# Altium integrated library Linear Technology Power Management Battery Management.IntLib: 626 symbols (part 16 of 56)
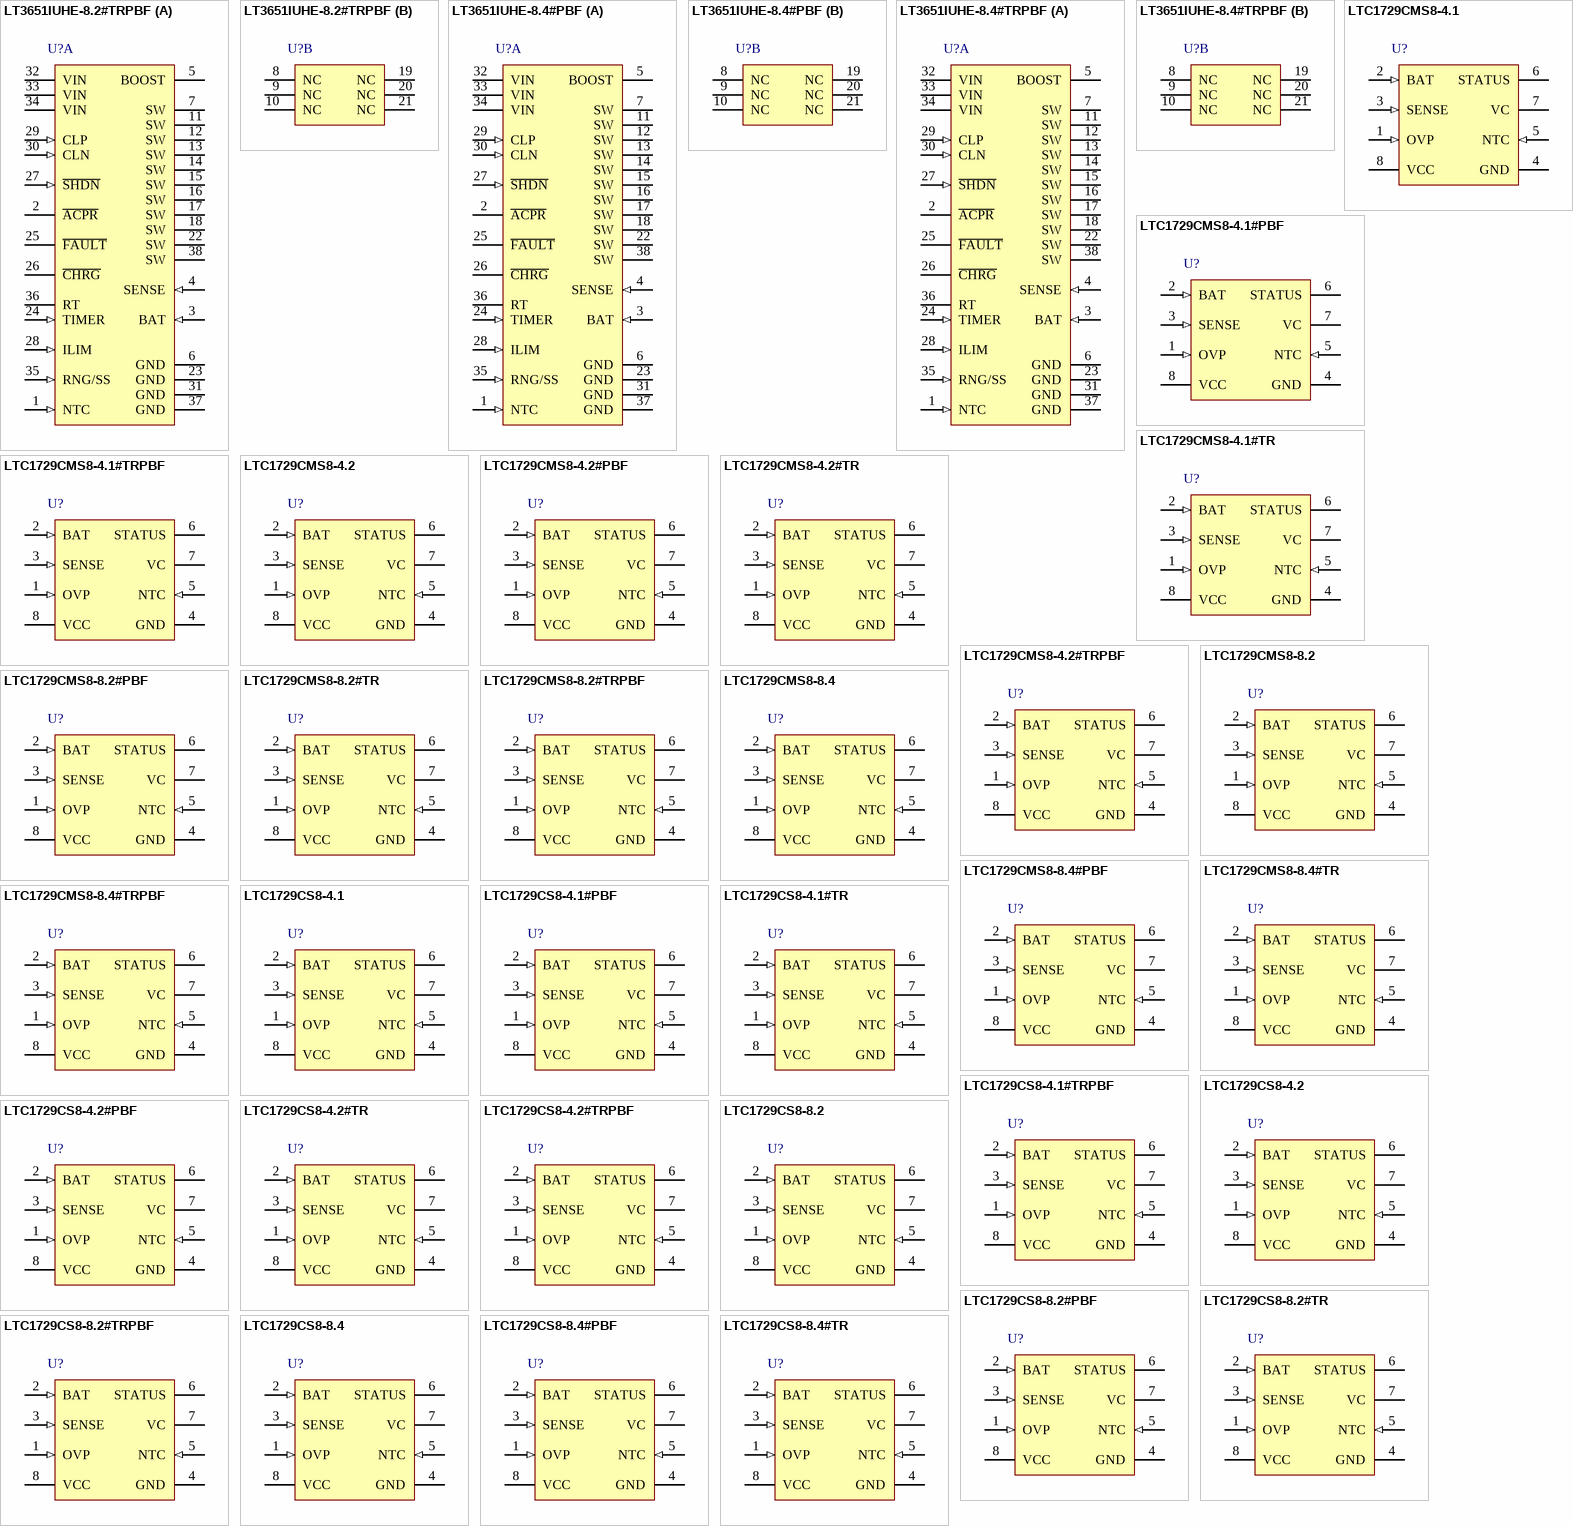
[diagram p37: symbols LT3651IUHE-8.2#TRPBF to LTC1729CS8-8.4#TR]

## LT3651IUHE-8.4#PBF
designator U?
Monolithic 4 A High Voltage 2-Cell Li-Ion Battery Charger, 9 to 32 V Vin, 36-pin QFN (UHE-36), -40 to 125 degC, Pb-Free; Manufacturer: Linear Technology; PartNumber: LT3651IUHE-8.4#PBF; Battery Chemistry: Li-Ion, Li-Polymer; Charge Termination: C/10, Timer; Float Voltage: 8.4 V; Max Charge Current(A): 4; Number of Cells: 2; Type of Charger: Switching; Vin Max(V): 32; Vin Min(V): 9; PackageVersion: Rev. A, 02/2012; PackageReference: UHE-36; PackageDescription: 36-Pin Plastic QFN, Body 5 x 6 mm, Pitch 0.5 mm; Supplier 1: Digi-Key; Supplier Part Number 1: LT3651IUHE-8.4#PBF-ND; Supplier 2: Newark; Supplier Part Number 2: 56W0969; RoHS: TRUE; Mounting Technology: Surface Mount; ComponentLink1Description: Manufacturer URL; ComponentLink1URL: http://www.linear.com/; ComponentLink2Description: Datasheet; ComponentLink2URL: http://cds.linear.com/docs/en/datasheet/36518284f.pdf; ComponentLink3Description: Package Specification; ComponentLink3URL: http://cds.linear.com/docs/en/packaging/(UHE36MA)%20QFN%2005-08-1753%20Rev%20A.pdf
footprint LT-UHE-36_N (QFN, 36-Leads, Body 6.1x5.1mm, Pitch 0.5mm, IPC Medium Density)
footprint LT-UHE-36_L (QFN, 36-Leads, Body 6.1x5.1mm, Pitch 0.5mm, IPC High Density)
footprint LT-UHE-36_M (QFN, 36-Leads, Body 6.1x5.1mm, Pitch 0.5mm, IPC Low Density)
part A pins: 1 NTC (in) "Battery Temperature Monitor Pin.  This pin is used to monitor battery temperature. Typically a 10k ohm  NTC (negative temperature coefficient) thermistor (B = 3380) is embedded with the battery and connected from the NTC pin (See Datasheet)", 2 ~{ACPR} (oc) "Open-Collector AC Present Status Pin.  This pin sinks current to indicate that VIN is valid and the charger is on. Typically a resistor pull-up is used on this pin. This pin can be pulled up to voltages as high as VIN when (See Datasheet)", 3 BAT (in) "Battery Voltage Monitor Pin. This pin monitors battery voltage. A Kelvin connection is made to the battery from this pin and a decoupling capacitor (CBAT)  is placed from this pin to ground. The charge function operates to (See Datasheet)", 4 SENSE (in) "Charge Current Sense Pin. The charge current is monitored with a sense resistor (RSENSE) connected between this pin and the BAT pin. The inductor current flows through RSENSE to the battery. The voltage across this resistor (See Datasheet)", 5 BOOST "Bootstrapped Supply Rail for Switch Drive. This pin facilitates saturation of the high side switch transistor. Connect a 1uF or greater capacitor from the BOOST pin to the SW pin. The operating range of this pin is 0V to 8.(See Datasheet)", 6 GND (power) "Ground. These pins are the ground pins for the part.", 7 SW (power) "Switch Output Pin. These pins are the output of the charger switches. An inductor is connected between these pins and the SENSE pin. When the switcher is active, the inductor is charged by the high side switch from VIN and (See Datasheet)", 11 SW (power) "Switch Output Pin. These pins are the output of the charger switches. An inductor is connected between these pins and the SENSE pin. When the switcher is active, the inductor is charged by the high side switch from VIN and (See Datasheet)", 12 SW (power) "Switch Output Pin. These pins are the output of the charger switches. An inductor is connected between these pins and the SENSE pin. When the switcher is active, the inductor is charged by the high side switch from VIN and (See Datasheet)", 13 SW (power) "Switch Output Pin. These pins are the output of the charger switches. An inductor is connected between these pins and the SENSE pin. When the switcher is active, the inductor is charged by the high side switch from VIN and (See Datasheet)", 14 SW (power) "Switch Output Pin. These pins are the output of the charger switches. An inductor is connected between these pins and the SENSE pin. When the switcher is active, the inductor is charged by the high side switch from VIN and (See Datasheet)", 15 SW (power) "Switch Output Pin. These pins are the output of the charger switches. An inductor is connected between these pins and the SENSE pin. When the switcher is active, the inductor is charged by the high side switch from VIN and (See Datasheet)", 16 SW (power) "Switch Output Pin. These pins are the output of the charger switches. An inductor is connected between these pins and the SENSE pin. When the switcher is active, the inductor is charged by the high side switch from VIN and (See Datasheet)", 17 SW (power) "Switch Output Pin. These pins are the output of the charger switches. An inductor is connected between these pins and the SENSE pin. When the switcher is active, the inductor is charged by the high side switch from VIN and (See Datasheet)", 18 SW (power) "Switch Output Pin. These pins are the output of the charger switches. An inductor is connected between these pins and the SENSE pin. When the switcher is active, the inductor is charged by the high side switch from VIN and (See Datasheet)", 22 SW (power) "Switch Output Pin. These pins are the output of the charger switches. An inductor is connected between these pins and the SENSE pin. When the switcher is active, the inductor is charged by the high side switch from VIN and (See Datasheet)", 23 GND (power) "Ground. These pins are the ground pins for the part.", 24 TIMER (in) "End-Of-Cycle Timer Programming Pin.  A capacitor on this pin to ground determines the full charge end-of-cycle time. Full charge end-of-cycle time is programmed with this capacitor. A 3 hour charge cycle is obtained with a 0.(See Datasheet)", 25 ~{FAULT} (hiz) "Open-Collector Fault Status Output. This pin indicates charge cycle Fault conditions during a battery charging cycle. Typically a resistor pull-up is used on this pin. This status pin can be pulled up to voltages as high as (See Datasheet)", 26 ~{CHRG} (hiz) "Open-Collector Charger Status Output. This pin indicates the battery charging status. Typically a resistor pull-up is used on this pin. This status pin can be pulled up to voltages as high as VIN when disabled,  and can sink (See Datasheet)", 27 ~{SHDN} (in) "Shutdown Pin. This pin can be used for precision UVLO functions. When this pin rises above the 1.20V threshold, the part is enabled. The pin has 95mV of voltage hysteresis. When in shutdown mode, all charging functions are (See Datasheet)", 28 ILIM (in) "Input Current Limit Programming. This pin allows for setting and dynamic adjustment of the system input current limit, and can be used to employ a soft-start function. The voltage on this pin sets the maximum input current (See Datasheet)", 29 CLP (in), 30 CLN (in), 31 GND (power) "Ground. These pins are the ground pins for the part.", 32 VIN (power), 33 VIN (power), 34 VIN (power), 35 RNG/SS (in) "Charge Current Range and Soft-Start Pin. This pin allows for setting and dynamic adjustment of the maximum charge current, and can be used to employ a soft-start function. The voltage on this pin sets the maximumcharge (See Datasheet)", 36 RT "Switcher Oscillator Timer Set Pin. A resistor from this pin to ground sets the switcher oscillator frequency. Typically this is 54.9k for fOSC = 1MHz.", 37 GND (power) "Ground. These pins are the ground pins for the part.", 38 SW (power) "Switch Output Pin. These pins are the output of the charger switches. An inductor is connected between these pins and the SENSE pin. When the switcher is active, the inductor is charged by the high side switch from VIN and (See Datasheet)"
part B pins: 8 NC "No Connect. These pins can be left floating (not connected).", 9 NC "No Connect. These pins can be left floating (not connected).", 10 NC "No Connect. These pins can be left floating (not connected).", 19 NC "No Connect. These pins can be left floating (not connected).", 20 NC "No Connect. These pins can be left floating (not connected).", 21 NC "No Connect. These pins can be left floating (not connected)."

## LT3651IUHE-8.4#TRPBF
designator U?
Monolithic 4 A High Voltage 2-Cell Li-Ion Battery Charger, 9 to 32 V Vin, 36-pin QFN (UHE-36), -40 to 125 degC, Pb-Free, Tape and Reel; Manufacturer: Linear Technology; PartNumber: LT3651IUHE-8.4#TRPBF; Battery Chemistry: Li-Ion, Li-Polymer; Charge Termination: C/10, Timer; Float Voltage: 8.4 V; Max Charge Current(A): 4; Number of Cells: 2; Type of Charger: Switching; Vin Max(V): 32; Vin Min(V): 9; PackageVersion: Rev. A, 02/2012; PackageReference: UHE-36; PackageDescription: 36-Pin Plastic QFN, Body 5 x 6 mm, Pitch 0.5 mm; Supplier 1: Digi-Key; Supplier Part Number 1: LT3651IUHE-8.4#TRPBF-ND; Supplier 2: Newark; Supplier Part Number 2: 56W0970; Packing: Tape and Reel; RoHS: TRUE; Mounting Technology: Surface Mount; ComponentLink1Description: Manufacturer URL; ComponentLink1URL: http://www.linear.com/; ComponentLink2Description: Datasheet; ComponentLink2URL: http://cds.linear.com/docs/en/datasheet/36518284f.pdf; ComponentLink3Description: Package Specification; ComponentLink3URL: http://cds.linear.com/docs/en/packaging/(UHE36MA)%20QFN%2005-08-1753%20Rev%20A.pdf
footprint LT-UHE-36_N (QFN, 36-Leads, Body 6.1x5.1mm, Pitch 0.5mm, IPC Medium Density)
footprint LT-UHE-36_L (QFN, 36-Leads, Body 6.1x5.1mm, Pitch 0.5mm, IPC High Density)
footprint LT-UHE-36_M (QFN, 36-Leads, Body 6.1x5.1mm, Pitch 0.5mm, IPC Low Density)
part A pins: 1 NTC (in) "Battery Temperature Monitor Pin.  This pin is used to monitor battery temperature. Typically a 10k ohm  NTC (negative temperature coefficient) thermistor (B = 3380) is embedded with the battery and connected from the NTC pin (See Datasheet)", 2 ~{ACPR} (oc) "Open-Collector AC Present Status Pin.  This pin sinks current to indicate that VIN is valid and the charger is on. Typically a resistor pull-up is used on this pin. This pin can be pulled up to voltages as high as VIN when (See Datasheet)", 3 BAT (in) "Battery Voltage Monitor Pin. This pin monitors battery voltage. A Kelvin connection is made to the battery from this pin and a decoupling capacitor (CBAT)  is placed from this pin to ground. The charge function operates to (See Datasheet)", 4 SENSE (in) "Charge Current Sense Pin. The charge current is monitored with a sense resistor (RSENSE) connected between this pin and the BAT pin. The inductor current flows through RSENSE to the battery. The voltage across this resistor (See Datasheet)", 5 BOOST "Bootstrapped Supply Rail for Switch Drive. This pin facilitates saturation of the high side switch transistor. Connect a 1uF or greater capacitor from the BOOST pin to the SW pin. The operating range of this pin is 0V to 8.(See Datasheet)", 6 GND (power) "Ground. These pins are the ground pins for the part.", 7 SW (power) "Switch Output Pin. These pins are the output of the charger switches. An inductor is connected between these pins and the SENSE pin. When the switcher is active, the inductor is charged by the high side switch from VIN and (See Datasheet)", 11 SW (power) "Switch Output Pin. These pins are the output of the charger switches. An inductor is connected between these pins and the SENSE pin. When the switcher is active, the inductor is charged by the high side switch from VIN and (See Datasheet)", 12 SW (power) "Switch Output Pin. These pins are the output of the charger switches. An inductor is connected between these pins and the SENSE pin. When the switcher is active, the inductor is charged by the high side switch from VIN and (See Datasheet)", 13 SW (power) "Switch Output Pin. These pins are the output of the charger switches. An inductor is connected between these pins and the SENSE pin. When the switcher is active, the inductor is charged by the high side switch from VIN and (See Datasheet)", 14 SW (power) "Switch Output Pin. These pins are the output of the charger switches. An inductor is connected between these pins and the SENSE pin. When the switcher is active, the inductor is charged by the high side switch from VIN and (See Datasheet)", 15 SW (power) "Switch Output Pin. These pins are the output of the charger switches. An inductor is connected between these pins and the SENSE pin. When the switcher is active, the inductor is charged by the high side switch from VIN and (See Datasheet)", 16 SW (power) "Switch Output Pin. These pins are the output of the charger switches. An inductor is connected between these pins and the SENSE pin. When the switcher is active, the inductor is charged by the high side switch from VIN and (See Datasheet)", 17 SW (power) "Switch Output Pin. These pins are the output of the charger switches. An inductor is connected between these pins and the SENSE pin. When the switcher is active, the inductor is charged by the high side switch from VIN and (See Datasheet)", 18 SW (power) "Switch Output Pin. These pins are the output of the charger switches. An inductor is connected between these pins and the SENSE pin. When the switcher is active, the inductor is charged by the high side switch from VIN and (See Datasheet)", 22 SW (power) "Switch Output Pin. These pins are the output of the charger switches. An inductor is connected between these pins and the SENSE pin. When the switcher is active, the inductor is charged by the high side switch from VIN and (See Datasheet)", 23 GND (power) "Ground. These pins are the ground pins for the part.", 24 TIMER (in) "End-Of-Cycle Timer Programming Pin.  A capacitor on this pin to ground determines the full charge end-of-cycle time. Full charge end-of-cycle time is programmed with this capacitor. A 3 hour charge cycle is obtained with a 0.(See Datasheet)", 25 ~{FAULT} (hiz) "Open-Collector Fault Status Output. This pin indicates charge cycle Fault conditions during a battery charging cycle. Typically a resistor pull-up is used on this pin. This status pin can be pulled up to voltages as high as (See Datasheet)", 26 ~{CHRG} (hiz) "Open-Collector Charger Status Output. This pin indicates the battery charging status. Typically a resistor pull-up is used on this pin. This status pin can be pulled up to voltages as high as VIN when disabled,  and can sink (See Datasheet)", 27 ~{SHDN} (in) "Shutdown Pin. This pin can be used for precision UVLO functions. When this pin rises above the 1.20V threshold, the part is enabled. The pin has 95mV of voltage hysteresis. When in shutdown mode, all charging functions are (See Datasheet)", 28 ILIM (in) "Input Current Limit Programming. This pin allows for setting and dynamic adjustment of the system input current limit, and can be used to employ a soft-start function. The voltage on this pin sets the maximum input current (See Datasheet)", 29 CLP (in), 30 CLN (in), 31 GND (power) "Ground. These pins are the ground pins for the part.", 32 VIN (power), 33 VIN (power), 34 VIN (power), 35 RNG/SS (in) "Charge Current Range and Soft-Start Pin. This pin allows for setting and dynamic adjustment of the maximum charge current, and can be used to employ a soft-start function. The voltage on this pin sets the maximumcharge (See Datasheet)", 36 RT "Switcher Oscillator Timer Set Pin. A resistor from this pin to ground sets the switcher oscillator frequency. Typically this is 54.9k for fOSC = 1MHz.", 37 GND (power) "Ground. These pins are the ground pins for the part.", 38 SW (power) "Switch Output Pin. These pins are the output of the charger switches. An inductor is connected between these pins and the SENSE pin. When the switcher is active, the inductor is charged by the high side switch from VIN and (See Datasheet)"
part B pins: 8 NC "No Connect. These pins can be left floating (not connected).", 9 NC "No Connect. These pins can be left floating (not connected).", 10 NC "No Connect. These pins can be left floating (not connected).", 19 NC "No Connect. These pins can be left floating (not connected).", 20 NC "No Connect. These pins can be left floating (not connected).", 21 NC "No Connect. These pins can be left floating (not connected)."

## LTC1729CMS8-4.1
designator U?
Li-Ion Battery Charger Termination Controller, 8-pin SOP (MS8-8), 0 to 70 degC; Manufacturer: Linear Technology; PartNumber: LTC1729CMS8-4.1; Battery Chemistry: Li-Ion, Li-Polymer, LiFePO4, NiCd, NiMH, Lead Acid; PackageVersion: Rev. G, 03/2012; PackageReference: MS8-8; PackageDescription: 8-Pin Plastic MSOP, Body 3 x 3 mm, Pitch 0.65 mm; Supplier 1: Digi-Key; Supplier Part Number 1: LTC1729CMS8-4.1-ND; RoHS: FALSE; Type of Charger: Termination Controller; Mounting Technology: Surface Mount; ComponentLink1Description: Manufacturer URL; ComponentLink1URL: http://www.linear.com/; ComponentLink2Description: Datasheet; ComponentLink2URL: http://cds.linear.com/docs/en/datasheet/1729f.pdf; ComponentLink3Description: Package Specification; ComponentLink3URL: http://cds.linear.com/docs/en/packaging/05081660_G_MS8.pdf
footprint LT-MS8-8_N (SOP, 8-Leads, Body 3.1x3.1mm, Pitch 0.65mm, IPC Medium Density)
footprint LT-MS8-8_L (SOP, 8-Leads, Body 3.1x3.1mm, Pitch 0.65mm, IPC High Density)
footprint LT-MS8-8_M (SOP, 8-Leads, Body 3.1x3.1mm, Pitch 0.65mm, IPC Low Density)
pins: 1 OVP (in) "Connection to an Internal Precision ResistorDivider Used as a Voltage Feedback Monitor for Constant-Voltage Mode Charging.", 2 BAT (in) "Input to Battery Monitor Circuits and OVP Resistor Divider. The battery monitor circuits activate trickle charge preconditioning, battery present detection and C/10 current detection. This pin is in a high impedance state (See Datasheet)", 3 SENSE (in) "Input to C/10 Current Detection Circuit.This pin sinks 100uA during the Charge state which is used to program the C/10 current threshold.", 4 GND (power) "Ground.", 5 NTC (in) "Input to the NTC Thermistor Monitoring Circuits. When the voltage on this pin is above 2.79V (cold) or below 0.405V (hot), the state machine is locked in the present state and the timer is stopped. This is called the Hold (See Datasheet)", 6 STATUS (hiz) "Open-Drain Output for C/10 Charge Termination Detection Circuit. When in the Charge state,this pin is pulled low.Once the charge current drops below the C/10 current threshold for three seconds, the pull-down transistor is (See Datasheet)", 7 VC (oc) "Open-Drain Output for Turning Off the Charger. When this pin is open circuit, the charger is active. Normally this pin allows the charger to be active for three hours.", 8 VCC (power) "Input Supply. For 4.1V or 4.2V single cell operation, VCC should be between 8V and 28V with the IC turning off when VCC drops below 6V. For 2-cell applications, the undervoltage lockout is 10.4V with a minimum VCC of 12V. (See Datasheet)"

## LTC1729CMS8-4.1#PBF
designator U?
Li-Ion Battery Charger Termination Controller, 8-pin SOP (MS8-8), 0 to 70 degC, Pb-Free; Manufacturer: Linear Technology; PartNumber: LTC1729CMS8-4.1#PBF; Battery Chemistry: Li-Ion, Li-Polymer, LiFePO4, NiCd, NiMH, Lead Acid; PackageVersion: Rev. G, 03/2012; PackageReference: MS8-8; PackageDescription: 8-Pin Plastic MSOP, Body 3 x 3 mm, Pitch 0.65 mm; Supplier 1: Digi-Key; Supplier Part Number 1: LTC1729CMS8-4.1#PBF-ND; RoHS: TRUE; Type of Charger: Termination Controller; Mounting Technology: Surface Mount; ComponentLink1Description: Manufacturer URL; ComponentLink1URL: http://www.linear.com/; ComponentLink2Description: Datasheet; ComponentLink2URL: http://cds.linear.com/docs/en/datasheet/1729f.pdf; ComponentLink3Description: Package Specification; ComponentLink3URL: http://cds.linear.com/docs/en/packaging/05081660_G_MS8.pdf
footprint LT-MS8-8_N (SOP, 8-Leads, Body 3.1x3.1mm, Pitch 0.65mm, IPC Medium Density)
footprint LT-MS8-8_L (SOP, 8-Leads, Body 3.1x3.1mm, Pitch 0.65mm, IPC High Density)
footprint LT-MS8-8_M (SOP, 8-Leads, Body 3.1x3.1mm, Pitch 0.65mm, IPC Low Density)
pins: 1 OVP (in) "Connection to an Internal Precision ResistorDivider Used as a Voltage Feedback Monitor for Constant-Voltage Mode Charging.", 2 BAT (in) "Input to Battery Monitor Circuits and OVP Resistor Divider. The battery monitor circuits activate trickle charge preconditioning, battery present detection and C/10 current detection. This pin is in a high impedance state (See Datasheet)", 3 SENSE (in) "Input to C/10 Current Detection Circuit.This pin sinks 100uA during the Charge state which is used to program the C/10 current threshold.", 4 GND (power) "Ground.", 5 NTC (in) "Input to the NTC Thermistor Monitoring Circuits. When the voltage on this pin is above 2.79V (cold) or below 0.405V (hot), the state machine is locked in the present state and the timer is stopped. This is called the Hold (See Datasheet)", 6 STATUS (hiz) "Open-Drain Output for C/10 Charge Termination Detection Circuit. When in the Charge state,this pin is pulled low.Once the charge current drops below the C/10 current threshold for three seconds, the pull-down transistor is (See Datasheet)", 7 VC (oc) "Open-Drain Output for Turning Off the Charger. When this pin is open circuit, the charger is active. Normally this pin allows the charger to be active for three hours.", 8 VCC (power) "Input Supply. For 4.1V or 4.2V single cell operation, VCC should be between 8V and 28V with the IC turning off when VCC drops below 6V. For 2-cell applications, the undervoltage lockout is 10.4V with a minimum VCC of 12V. (See Datasheet)"

## LTC1729CMS8-4.1#TR
designator U?
Li-Ion Battery Charger Termination Controller, 8-pin SOP (MS8-8), 0 to 70 degC, Tape and Reel; Manufacturer: Linear Technology; PartNumber: LTC1729CMS8-4.1#TR; Battery Chemistry: Li-Ion, Li-Polymer, LiFePO4, NiCd, NiMH, Lead Acid; PackageVersion: Rev. G, 03/2012; PackageReference: MS8-8; PackageDescription: 8-Pin Plastic MSOP, Body 3 x 3 mm, Pitch 0.65 mm; Supplier 1: Digi-Key; Supplier Part Number 1: LTC1729CMS8-4.1TR-ND; Packing: Tape and Reel; RoHS: FALSE; Type of Charger: Termination Controller; Mounting Technology: Surface Mount; ComponentLink1Description: Manufacturer URL; ComponentLink1URL: http://www.linear.com/; ComponentLink2Description: Datasheet; ComponentLink2URL: http://cds.linear.com/docs/en/datasheet/1729f.pdf; ComponentLink3Description: Package Specification; ComponentLink3URL: http://cds.linear.com/docs/en/packaging/05081660_G_MS8.pdf
footprint LT-MS8-8_N (SOP, 8-Leads, Body 3.1x3.1mm, Pitch 0.65mm, IPC Medium Density)
footprint LT-MS8-8_L (SOP, 8-Leads, Body 3.1x3.1mm, Pitch 0.65mm, IPC High Density)
footprint LT-MS8-8_M (SOP, 8-Leads, Body 3.1x3.1mm, Pitch 0.65mm, IPC Low Density)
pins: 1 OVP (in) "Connection to an Internal Precision ResistorDivider Used as a Voltage Feedback Monitor for Constant-Voltage Mode Charging.", 2 BAT (in) "Input to Battery Monitor Circuits and OVP Resistor Divider. The battery monitor circuits activate trickle charge preconditioning, battery present detection and C/10 current detection. This pin is in a high impedance state (See Datasheet)", 3 SENSE (in) "Input to C/10 Current Detection Circuit.This pin sinks 100uA during the Charge state which is used to program the C/10 current threshold.", 4 GND (power) "Ground.", 5 NTC (in) "Input to the NTC Thermistor Monitoring Circuits. When the voltage on this pin is above 2.79V (cold) or below 0.405V (hot), the state machine is locked in the present state and the timer is stopped. This is called the Hold (See Datasheet)", 6 STATUS (hiz) "Open-Drain Output for C/10 Charge Termination Detection Circuit. When in the Charge state,this pin is pulled low.Once the charge current drops below the C/10 current threshold for three seconds, the pull-down transistor is (See Datasheet)", 7 VC (oc) "Open-Drain Output for Turning Off the Charger. When this pin is open circuit, the charger is active. Normally this pin allows the charger to be active for three hours.", 8 VCC (power) "Input Supply. For 4.1V or 4.2V single cell operation, VCC should be between 8V and 28V with the IC turning off when VCC drops below 6V. For 2-cell applications, the undervoltage lockout is 10.4V with a minimum VCC of 12V. (See Datasheet)"

## LTC1729CMS8-4.1#TRPBF
designator U?
Li-Ion Battery Charger Termination Controller, 8-pin SOP (MS8-8), 0 to 70 degC, Pb-Free, Tape and Reel; Manufacturer: Linear Technology; PartNumber: LTC1729CMS8-4.1#TRPBF; Battery Chemistry: Li-Ion, Li-Polymer, LiFePO4, NiCd, NiMH, Lead Acid; PackageVersion: Rev. G, 03/2012; PackageReference: MS8-8; PackageDescription: 8-Pin Plastic MSOP, Body 3 x 3 mm, Pitch 0.65 mm; Supplier 1: Digi-Key; Supplier Part Number 1: LTC1729CMS8-4.1#TRPBF-ND; Packing: Tape and Reel; RoHS: TRUE; Type of Charger: Termination Controller; Mounting Technology: Surface Mount; ComponentLink1Description: Manufacturer URL; ComponentLink1URL: http://www.linear.com/; ComponentLink2Description: Datasheet; ComponentLink2URL: http://cds.linear.com/docs/en/datasheet/1729f.pdf; ComponentLink3Description: Package Specification; ComponentLink3URL: http://cds.linear.com/docs/en/packaging/05081660_G_MS8.pdf
footprint LT-MS8-8_N (SOP, 8-Leads, Body 3.1x3.1mm, Pitch 0.65mm, IPC Medium Density)
footprint LT-MS8-8_L (SOP, 8-Leads, Body 3.1x3.1mm, Pitch 0.65mm, IPC High Density)
footprint LT-MS8-8_M (SOP, 8-Leads, Body 3.1x3.1mm, Pitch 0.65mm, IPC Low Density)
pins: 1 OVP (in) "Connection to an Internal Precision ResistorDivider Used as a Voltage Feedback Monitor for Constant-Voltage Mode Charging.", 2 BAT (in) "Input to Battery Monitor Circuits and OVP Resistor Divider. The battery monitor circuits activate trickle charge preconditioning, battery present detection and C/10 current detection. This pin is in a high impedance state (See Datasheet)", 3 SENSE (in) "Input to C/10 Current Detection Circuit.This pin sinks 100uA during the Charge state which is used to program the C/10 current threshold.", 4 GND (power) "Ground.", 5 NTC (in) "Input to the NTC Thermistor Monitoring Circuits. When the voltage on this pin is above 2.79V (cold) or below 0.405V (hot), the state machine is locked in the present state and the timer is stopped. This is called the Hold (See Datasheet)", 6 STATUS (hiz) "Open-Drain Output for C/10 Charge Termination Detection Circuit. When in the Charge state,this pin is pulled low.Once the charge current drops below the C/10 current threshold for three seconds, the pull-down transistor is (See Datasheet)", 7 VC (oc) "Open-Drain Output for Turning Off the Charger. When this pin is open circuit, the charger is active. Normally this pin allows the charger to be active for three hours.", 8 VCC (power) "Input Supply. For 4.1V or 4.2V single cell operation, VCC should be between 8V and 28V with the IC turning off when VCC drops below 6V. For 2-cell applications, the undervoltage lockout is 10.4V with a minimum VCC of 12V. (See Datasheet)"

## LTC1729CMS8-4.2
designator U?
Li-Ion Battery Charger Termination Controller, 8-pin SOP (MS8-8), 0 to 70 degC; Manufacturer: Linear Technology; PartNumber: LTC1729CMS8-4.2; Battery Chemistry: Li-Ion, Li-Polymer, LiFePO4, NiCd, NiMH, Lead Acid; PackageVersion: Rev. G, 03/2012; PackageReference: MS8-8; PackageDescription: 8-Pin Plastic MSOP, Body 3 x 3 mm, Pitch 0.65 mm; Supplier 1: Digi-Key; Supplier Part Number 1: LTC1729CMS8-4.2-ND; RoHS: FALSE; Type of Charger: Termination Controller; Mounting Technology: Surface Mount; ComponentLink1Description: Manufacturer URL; ComponentLink1URL: http://www.linear.com/; ComponentLink2Description: Datasheet; ComponentLink2URL: http://cds.linear.com/docs/en/datasheet/1729f.pdf; ComponentLink3Description: Package Specification; ComponentLink3URL: http://cds.linear.com/docs/en/packaging/05081660_G_MS8.pdf
footprint LT-MS8-8_N (SOP, 8-Leads, Body 3.1x3.1mm, Pitch 0.65mm, IPC Medium Density)
footprint LT-MS8-8_L (SOP, 8-Leads, Body 3.1x3.1mm, Pitch 0.65mm, IPC High Density)
footprint LT-MS8-8_M (SOP, 8-Leads, Body 3.1x3.1mm, Pitch 0.65mm, IPC Low Density)
pins: 1 OVP (in) "Connection to an Internal Precision ResistorDivider Used as a Voltage Feedback Monitor for Constant-Voltage Mode Charging.", 2 BAT (in) "Input to Battery Monitor Circuits and OVP Resistor Divider. The battery monitor circuits activate trickle charge preconditioning, battery present detection and C/10 current detection. This pin is in a high impedance state (See Datasheet)", 3 SENSE (in) "Input to C/10 Current Detection Circuit.This pin sinks 100uA during the Charge state which is used to program the C/10 current threshold.", 4 GND (power) "Ground.", 5 NTC (in) "Input to the NTC Thermistor Monitoring Circuits. When the voltage on this pin is above 2.79V (cold) or below 0.405V (hot), the state machine is locked in the present state and the timer is stopped. This is called the Hold (See Datasheet)", 6 STATUS (hiz) "Open-Drain Output for C/10 Charge Termination Detection Circuit. When in the Charge state,this pin is pulled low.Once the charge current drops below the C/10 current threshold for three seconds, the pull-down transistor is (See Datasheet)", 7 VC (oc) "Open-Drain Output for Turning Off the Charger. When this pin is open circuit, the charger is active. Normally this pin allows the charger to be active for three hours.", 8 VCC (power) "Input Supply. For 4.1V or 4.2V single cell operation, VCC should be between 8V and 28V with the IC turning off when VCC drops below 6V. For 2-cell applications, the undervoltage lockout is 10.4V with a minimum VCC of 12V. (See Datasheet)"

## LTC1729CMS8-4.2#PBF
designator U?
Li-Ion Battery Charger Termination Controller, 8-pin SOP (MS8-8), 0 to 70 degC, Pb-Free; Manufacturer: Linear Technology; PartNumber: LTC1729CMS8-4.2#PBF; Battery Chemistry: Li-Ion, Li-Polymer, LiFePO4, NiCd, NiMH, Lead Acid; PackageVersion: Rev. G, 03/2012; PackageReference: MS8-8; PackageDescription: 8-Pin Plastic MSOP, Body 3 x 3 mm, Pitch 0.65 mm; Supplier 1: Digi-Key; Supplier Part Number 1: LTC1729CMS8-4.2#PBF-ND; RoHS: TRUE; Type of Charger: Termination Controller; Mounting Technology: Surface Mount; ComponentLink1Description: Manufacturer URL; ComponentLink1URL: http://www.linear.com/; ComponentLink2Description: Datasheet; ComponentLink2URL: http://cds.linear.com/docs/en/datasheet/1729f.pdf; ComponentLink3Description: Package Specification; ComponentLink3URL: http://cds.linear.com/docs/en/packaging/05081660_G_MS8.pdf
footprint LT-MS8-8_N (SOP, 8-Leads, Body 3.1x3.1mm, Pitch 0.65mm, IPC Medium Density)
footprint LT-MS8-8_L (SOP, 8-Leads, Body 3.1x3.1mm, Pitch 0.65mm, IPC High Density)
footprint LT-MS8-8_M (SOP, 8-Leads, Body 3.1x3.1mm, Pitch 0.65mm, IPC Low Density)
pins: 1 OVP (in) "Connection to an Internal Precision ResistorDivider Used as a Voltage Feedback Monitor for Constant-Voltage Mode Charging.", 2 BAT (in) "Input to Battery Monitor Circuits and OVP Resistor Divider. The battery monitor circuits activate trickle charge preconditioning, battery present detection and C/10 current detection. This pin is in a high impedance state (See Datasheet)", 3 SENSE (in) "Input to C/10 Current Detection Circuit.This pin sinks 100uA during the Charge state which is used to program the C/10 current threshold.", 4 GND (power) "Ground.", 5 NTC (in) "Input to the NTC Thermistor Monitoring Circuits. When the voltage on this pin is above 2.79V (cold) or below 0.405V (hot), the state machine is locked in the present state and the timer is stopped. This is called the Hold (See Datasheet)", 6 STATUS (hiz) "Open-Drain Output for C/10 Charge Termination Detection Circuit. When in the Charge state,this pin is pulled low.Once the charge current drops below the C/10 current threshold for three seconds, the pull-down transistor is (See Datasheet)", 7 VC (oc) "Open-Drain Output for Turning Off the Charger. When this pin is open circuit, the charger is active. Normally this pin allows the charger to be active for three hours.", 8 VCC (power) "Input Supply. For 4.1V or 4.2V single cell operation, VCC should be between 8V and 28V with the IC turning off when VCC drops below 6V. For 2-cell applications, the undervoltage lockout is 10.4V with a minimum VCC of 12V. (See Datasheet)"

## LTC1729CMS8-4.2#TR
designator U?
Li-Ion Battery Charger Termination Controller, 8-pin SOP (MS8-8), 0 to 70 degC, Tape and Reel; Manufacturer: Linear Technology; PartNumber: LTC1729CMS8-4.2#TR; Battery Chemistry: Li-Ion, Li-Polymer, LiFePO4, NiCd, NiMH, Lead Acid; PackageVersion: Rev. G, 03/2012; PackageReference: MS8-8; PackageDescription: 8-Pin Plastic MSOP, Body 3 x 3 mm, Pitch 0.65 mm; Supplier 1: Digi-Key; Supplier Part Number 1: LTC1729CMS8-4.2TR-ND; Packing: Tape and Reel; RoHS: FALSE; Type of Charger: Termination Controller; Mounting Technology: Surface Mount; ComponentLink1Description: Manufacturer URL; ComponentLink1URL: http://www.linear.com/; ComponentLink2Description: Datasheet; ComponentLink2URL: http://cds.linear.com/docs/en/datasheet/1729f.pdf; ComponentLink3Description: Package Specification; ComponentLink3URL: http://cds.linear.com/docs/en/packaging/05081660_G_MS8.pdf
footprint LT-MS8-8_N (SOP, 8-Leads, Body 3.1x3.1mm, Pitch 0.65mm, IPC Medium Density)
footprint LT-MS8-8_L (SOP, 8-Leads, Body 3.1x3.1mm, Pitch 0.65mm, IPC High Density)
footprint LT-MS8-8_M (SOP, 8-Leads, Body 3.1x3.1mm, Pitch 0.65mm, IPC Low Density)
pins: 1 OVP (in) "Connection to an Internal Precision ResistorDivider Used as a Voltage Feedback Monitor for Constant-Voltage Mode Charging.", 2 BAT (in) "Input to Battery Monitor Circuits and OVP Resistor Divider. The battery monitor circuits activate trickle charge preconditioning, battery present detection and C/10 current detection. This pin is in a high impedance state (See Datasheet)", 3 SENSE (in) "Input to C/10 Current Detection Circuit.This pin sinks 100uA during the Charge state which is used to program the C/10 current threshold.", 4 GND (power) "Ground.", 5 NTC (in) "Input to the NTC Thermistor Monitoring Circuits. When the voltage on this pin is above 2.79V (cold) or below 0.405V (hot), the state machine is locked in the present state and the timer is stopped. This is called the Hold (See Datasheet)", 6 STATUS (hiz) "Open-Drain Output for C/10 Charge Termination Detection Circuit. When in the Charge state,this pin is pulled low.Once the charge current drops below the C/10 current threshold for three seconds, the pull-down transistor is (See Datasheet)", 7 VC (oc) "Open-Drain Output for Turning Off the Charger. When this pin is open circuit, the charger is active. Normally this pin allows the charger to be active for three hours.", 8 VCC (power) "Input Supply. For 4.1V or 4.2V single cell operation, VCC should be between 8V and 28V with the IC turning off when VCC drops below 6V. For 2-cell applications, the undervoltage lockout is 10.4V with a minimum VCC of 12V. (See Datasheet)"

## LTC1729CMS8-4.2#TRPBF
designator U?
Li-Ion Battery Charger Termination Controller, 8-pin SOP (MS8-8), 0 to 70 degC, Pb-Free, Tape and Reel; Manufacturer: Linear Technology; PartNumber: LTC1729CMS8-4.2#TRPBF; Battery Chemistry: Li-Ion, Li-Polymer, LiFePO4, NiCd, NiMH, Lead Acid; PackageVersion: Rev. G, 03/2012; PackageReference: MS8-8; PackageDescription: 8-Pin Plastic MSOP, Body 3 x 3 mm, Pitch 0.65 mm; Supplier 1: Digi-Key; Supplier Part Number 1: LTC1729CMS8-4.2#TRPBF-ND; Packing: Tape and Reel; RoHS: TRUE; Type of Charger: Termination Controller; Mounting Technology: Surface Mount; ComponentLink1Description: Manufacturer URL; ComponentLink1URL: http://www.linear.com/; ComponentLink2Description: Datasheet; ComponentLink2URL: http://cds.linear.com/docs/en/datasheet/1729f.pdf; ComponentLink3Description: Package Specification; ComponentLink3URL: http://cds.linear.com/docs/en/packaging/05081660_G_MS8.pdf
footprint LT-MS8-8_N (SOP, 8-Leads, Body 3.1x3.1mm, Pitch 0.65mm, IPC Medium Density)
footprint LT-MS8-8_L (SOP, 8-Leads, Body 3.1x3.1mm, Pitch 0.65mm, IPC High Density)
footprint LT-MS8-8_M (SOP, 8-Leads, Body 3.1x3.1mm, Pitch 0.65mm, IPC Low Density)
pins: 1 OVP (in) "Connection to an Internal Precision ResistorDivider Used as a Voltage Feedback Monitor for Constant-Voltage Mode Charging.", 2 BAT (in) "Input to Battery Monitor Circuits and OVP Resistor Divider. The battery monitor circuits activate trickle charge preconditioning, battery present detection and C/10 current detection. This pin is in a high impedance state (See Datasheet)", 3 SENSE (in) "Input to C/10 Current Detection Circuit.This pin sinks 100uA during the Charge state which is used to program the C/10 current threshold.", 4 GND (power) "Ground.", 5 NTC (in) "Input to the NTC Thermistor Monitoring Circuits. When the voltage on this pin is above 2.79V (cold) or below 0.405V (hot), the state machine is locked in the present state and the timer is stopped. This is called the Hold (See Datasheet)", 6 STATUS (hiz) "Open-Drain Output for C/10 Charge Termination Detection Circuit. When in the Charge state,this pin is pulled low.Once the charge current drops below the C/10 current threshold for three seconds, the pull-down transistor is (See Datasheet)", 7 VC (oc) "Open-Drain Output for Turning Off the Charger. When this pin is open circuit, the charger is active. Normally this pin allows the charger to be active for three hours.", 8 VCC (power) "Input Supply. For 4.1V or 4.2V single cell operation, VCC should be between 8V and 28V with the IC turning off when VCC drops below 6V. For 2-cell applications, the undervoltage lockout is 10.4V with a minimum VCC of 12V. (See Datasheet)"

## LTC1729CMS8-8.2
designator U?
Li-Ion Battery Charger Termination Controller, 8-pin SOP (MS8-8), 0 to 70 degC; Manufacturer: Linear Technology; PartNumber: LTC1729CMS8-8.2; Battery Chemistry: Li-Ion, Li-Polymer, LiFePO4, NiCd, NiMH, Lead Acid; PackageVersion: Rev. G, 03/2012; PackageReference: MS8-8; PackageDescription: 8-Pin Plastic MSOP, Body 3 x 3 mm, Pitch 0.65 mm; Supplier 1: Digi-Key; Supplier Part Number 1: LTC1729CMS8-8.2-ND; RoHS: FALSE; Type of Charger: Termination Controller; Mounting Technology: Surface Mount; ComponentLink1Description: Manufacturer URL; ComponentLink1URL: http://www.linear.com/; ComponentLink2Description: Datasheet; ComponentLink2URL: http://cds.linear.com/docs/en/datasheet/1729f.pdf; ComponentLink3Description: Package Specification; ComponentLink3URL: http://cds.linear.com/docs/en/packaging/05081660_G_MS8.pdf
footprint LT-MS8-8_N (SOP, 8-Leads, Body 3.1x3.1mm, Pitch 0.65mm, IPC Medium Density)
footprint LT-MS8-8_L (SOP, 8-Leads, Body 3.1x3.1mm, Pitch 0.65mm, IPC High Density)
footprint LT-MS8-8_M (SOP, 8-Leads, Body 3.1x3.1mm, Pitch 0.65mm, IPC Low Density)
pins: 1 OVP (in) "Connection to an Internal Precision ResistorDivider Used as a Voltage Feedback Monitor for Constant-Voltage Mode Charging.", 2 BAT (in) "Input to Battery Monitor Circuits and OVP Resistor Divider. The battery monitor circuits activate trickle charge preconditioning, battery present detection and C/10 current detection. This pin is in a high impedance state (See Datasheet)", 3 SENSE (in) "Input to C/10 Current Detection Circuit.This pin sinks 100uA during the Charge state which is used to program the C/10 current threshold.", 4 GND (power) "Ground.", 5 NTC (in) "Input to the NTC Thermistor Monitoring Circuits. When the voltage on this pin is above 2.79V (cold) or below 0.405V (hot), the state machine is locked in the present state and the timer is stopped. This is called the Hold (See Datasheet)", 6 STATUS (hiz) "Open-Drain Output for C/10 Charge Termination Detection Circuit. When in the Charge state,this pin is pulled low.Once the charge current drops below the C/10 current threshold for three seconds, the pull-down transistor is (See Datasheet)", 7 VC (oc) "Open-Drain Output for Turning Off the Charger. When this pin is open circuit, the charger is active. Normally this pin allows the charger to be active for three hours.", 8 VCC (power) "Input Supply. For 4.1V or 4.2V single cell operation, VCC should be between 8V and 28V with the IC turning off when VCC drops below 6V. For 2-cell applications, the undervoltage lockout is 10.4V with a minimum VCC of 12V. (See Datasheet)"

## LTC1729CMS8-8.2#PBF
designator U?
Li-Ion Battery Charger Termination Controller, 8-pin SOP (MS8-8), 0 to 70 degC, Pb-Free; Manufacturer: Linear Technology; PartNumber: LTC1729CMS8-8.2#PBF; Battery Chemistry: Li-Ion, Li-Polymer, LiFePO4, NiCd, NiMH, Lead Acid; PackageVersion: Rev. G, 03/2012; PackageReference: MS8-8; PackageDescription: 8-Pin Plastic MSOP, Body 3 x 3 mm, Pitch 0.65 mm; Supplier 1: Digi-Key; Supplier Part Number 1: LTC1729CMS8-8.2#PBF-ND; RoHS: TRUE; Type of Charger: Termination Controller; Mounting Technology: Surface Mount; ComponentLink1Description: Manufacturer URL; ComponentLink1URL: http://www.linear.com/; ComponentLink2Description: Datasheet; ComponentLink2URL: http://cds.linear.com/docs/en/datasheet/1729f.pdf; ComponentLink3Description: Package Specification; ComponentLink3URL: http://cds.linear.com/docs/en/packaging/05081660_G_MS8.pdf
footprint LT-MS8-8_N (SOP, 8-Leads, Body 3.1x3.1mm, Pitch 0.65mm, IPC Medium Density)
footprint LT-MS8-8_L (SOP, 8-Leads, Body 3.1x3.1mm, Pitch 0.65mm, IPC High Density)
footprint LT-MS8-8_M (SOP, 8-Leads, Body 3.1x3.1mm, Pitch 0.65mm, IPC Low Density)
pins: 1 OVP (in) "Connection to an Internal Precision ResistorDivider Used as a Voltage Feedback Monitor for Constant-Voltage Mode Charging.", 2 BAT (in) "Input to Battery Monitor Circuits and OVP Resistor Divider. The battery monitor circuits activate trickle charge preconditioning, battery present detection and C/10 current detection. This pin is in a high impedance state (See Datasheet)", 3 SENSE (in) "Input to C/10 Current Detection Circuit.This pin sinks 100uA during the Charge state which is used to program the C/10 current threshold.", 4 GND (power) "Ground.", 5 NTC (in) "Input to the NTC Thermistor Monitoring Circuits. When the voltage on this pin is above 2.79V (cold) or below 0.405V (hot), the state machine is locked in the present state and the timer is stopped. This is called the Hold (See Datasheet)", 6 STATUS (hiz) "Open-Drain Output for C/10 Charge Termination Detection Circuit. When in the Charge state,this pin is pulled low.Once the charge current drops below the C/10 current threshold for three seconds, the pull-down transistor is (See Datasheet)", 7 VC (oc) "Open-Drain Output for Turning Off the Charger. When this pin is open circuit, the charger is active. Normally this pin allows the charger to be active for three hours.", 8 VCC (power) "Input Supply. For 4.1V or 4.2V single cell operation, VCC should be between 8V and 28V with the IC turning off when VCC drops below 6V. For 2-cell applications, the undervoltage lockout is 10.4V with a minimum VCC of 12V. (See Datasheet)"

## LTC1729CMS8-8.2#TR
designator U?
Li-Ion Battery Charger Termination Controller, 8-pin SOP (MS8-8), 0 to 70 degC, Tape and Reel; Manufacturer: Linear Technology; PartNumber: LTC1729CMS8-8.2#TR; Battery Chemistry: Li-Ion, Li-Polymer, LiFePO4, NiCd, NiMH, Lead Acid; PackageVersion: Rev. G, 03/2012; PackageReference: MS8-8; PackageDescription: 8-Pin Plastic MSOP, Body 3 x 3 mm, Pitch 0.65 mm; Supplier 1: Digi-Key; Supplier Part Number 1: LTC1729CMS8-8.2TR-ND; Packing: Tape and Reel; RoHS: FALSE; Type of Charger: Termination Controller; Mounting Technology: Surface Mount; ComponentLink1Description: Manufacturer URL; ComponentLink1URL: http://www.linear.com/; ComponentLink2Description: Datasheet; ComponentLink2URL: http://cds.linear.com/docs/en/datasheet/1729f.pdf; ComponentLink3Description: Package Specification; ComponentLink3URL: http://cds.linear.com/docs/en/packaging/05081660_G_MS8.pdf
footprint LT-MS8-8_N (SOP, 8-Leads, Body 3.1x3.1mm, Pitch 0.65mm, IPC Medium Density)
footprint LT-MS8-8_L (SOP, 8-Leads, Body 3.1x3.1mm, Pitch 0.65mm, IPC High Density)
footprint LT-MS8-8_M (SOP, 8-Leads, Body 3.1x3.1mm, Pitch 0.65mm, IPC Low Density)
pins: 1 OVP (in) "Connection to an Internal Precision ResistorDivider Used as a Voltage Feedback Monitor for Constant-Voltage Mode Charging.", 2 BAT (in) "Input to Battery Monitor Circuits and OVP Resistor Divider. The battery monitor circuits activate trickle charge preconditioning, battery present detection and C/10 current detection. This pin is in a high impedance state (See Datasheet)", 3 SENSE (in) "Input to C/10 Current Detection Circuit.This pin sinks 100uA during the Charge state which is used to program the C/10 current threshold.", 4 GND (power) "Ground.", 5 NTC (in) "Input to the NTC Thermistor Monitoring Circuits. When the voltage on this pin is above 2.79V (cold) or below 0.405V (hot), the state machine is locked in the present state and the timer is stopped. This is called the Hold (See Datasheet)", 6 STATUS (hiz) "Open-Drain Output for C/10 Charge Termination Detection Circuit. When in the Charge state,this pin is pulled low.Once the charge current drops below the C/10 current threshold for three seconds, the pull-down transistor is (See Datasheet)", 7 VC (oc) "Open-Drain Output for Turning Off the Charger. When this pin is open circuit, the charger is active. Normally this pin allows the charger to be active for three hours.", 8 VCC (power) "Input Supply. For 4.1V or 4.2V single cell operation, VCC should be between 8V and 28V with the IC turning off when VCC drops below 6V. For 2-cell applications, the undervoltage lockout is 10.4V with a minimum VCC of 12V. (See Datasheet)"

## LTC1729CMS8-8.2#TRPBF
designator U?
Li-Ion Battery Charger Termination Controller, 8-pin SOP (MS8-8), 0 to 70 degC, Pb-Free, Tape and Reel; Manufacturer: Linear Technology; PartNumber: LTC1729CMS8-8.2#TRPBF; Battery Chemistry: Li-Ion, Li-Polymer, LiFePO4, NiCd, NiMH, Lead Acid; PackageVersion: Rev. G, 03/2012; PackageReference: MS8-8; PackageDescription: 8-Pin Plastic MSOP, Body 3 x 3 mm, Pitch 0.65 mm; Supplier 1: Digi-Key; Supplier Part Number 1: LTC1729CMS8-8.2#TRPBF-ND; Packing: Tape and Reel; RoHS: TRUE; Type of Charger: Termination Controller; Mounting Technology: Surface Mount; ComponentLink1Description: Manufacturer URL; ComponentLink1URL: http://www.linear.com/; ComponentLink2Description: Datasheet; ComponentLink2URL: http://cds.linear.com/docs/en/datasheet/1729f.pdf; ComponentLink3Description: Package Specification; ComponentLink3URL: http://cds.linear.com/docs/en/packaging/05081660_G_MS8.pdf
footprint LT-MS8-8_N (SOP, 8-Leads, Body 3.1x3.1mm, Pitch 0.65mm, IPC Medium Density)
footprint LT-MS8-8_L (SOP, 8-Leads, Body 3.1x3.1mm, Pitch 0.65mm, IPC High Density)
footprint LT-MS8-8_M (SOP, 8-Leads, Body 3.1x3.1mm, Pitch 0.65mm, IPC Low Density)
pins: 1 OVP (in) "Connection to an Internal Precision ResistorDivider Used as a Voltage Feedback Monitor for Constant-Voltage Mode Charging.", 2 BAT (in) "Input to Battery Monitor Circuits and OVP Resistor Divider. The battery monitor circuits activate trickle charge preconditioning, battery present detection and C/10 current detection. This pin is in a high impedance state (See Datasheet)", 3 SENSE (in) "Input to C/10 Current Detection Circuit.This pin sinks 100uA during the Charge state which is used to program the C/10 current threshold.", 4 GND (power) "Ground.", 5 NTC (in) "Input to the NTC Thermistor Monitoring Circuits. When the voltage on this pin is above 2.79V (cold) or below 0.405V (hot), the state machine is locked in the present state and the timer is stopped. This is called the Hold (See Datasheet)", 6 STATUS (hiz) "Open-Drain Output for C/10 Charge Termination Detection Circuit. When in the Charge state,this pin is pulled low.Once the charge current drops below the C/10 current threshold for three seconds, the pull-down transistor is (See Datasheet)", 7 VC (oc) "Open-Drain Output for Turning Off the Charger. When this pin is open circuit, the charger is active. Normally this pin allows the charger to be active for three hours.", 8 VCC (power) "Input Supply. For 4.1V or 4.2V single cell operation, VCC should be between 8V and 28V with the IC turning off when VCC drops below 6V. For 2-cell applications, the undervoltage lockout is 10.4V with a minimum VCC of 12V. (See Datasheet)"